# Altium schematic symbol library SN6505.SCHLIB: 1 symbol
Pins are listed as number, name and electrical type; pins without a type are passive.

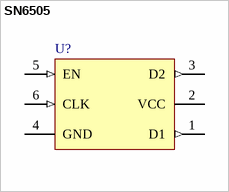
[diagram p0: symbol SN6505]

## SN6505
designator U?
pins: 1 D1 (out), 2 VCC (power), 3 D2 (out), 4 GND (power), 5 EN (in), 6 CLK (in)